# Altium footprint library WE-SL3.PcbLib: 2 footprints
Each footprint in its own frame and in the unit in brackets; x right, y up, seen from the top. Pads: shape width x height; smd on the part's side, far side on the other; paste and mask are expansions set on the pad; w line width, h text height; cw(c..) or ccw(c..) is an arc to the next point about the centre after c.
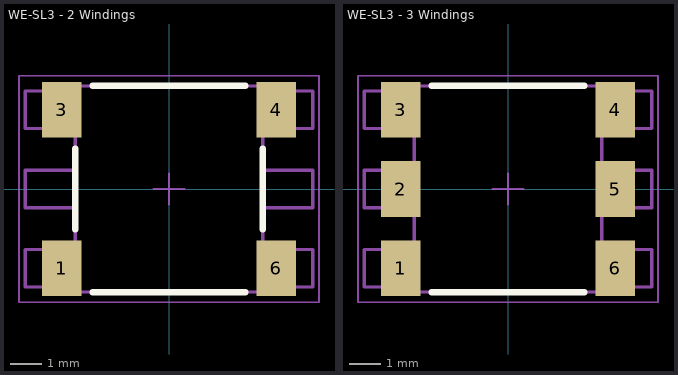
[diagram p0: the footprints below, top view; thin cyan lines are the x and y axes]

## WE-SL3 - 2 Windings [mm] "SMD Inductor, body 9.2x6.6mm, 4-leads"
height 2.5
pads (4):
  rect 1.27x1.78 smd: 1(-3.43,-2.54) 3(-3.43,2.54) 4(3.43,2.54) 6(3.43,-2.54)
Top Overlay:
  lines w0.2: -3,-1.3 -3,1.3 ; -2.45,-3.3 2.45,-3.3 ; -2.45,3.3 2.45,3.3 ; 3,-1.3 3,1.3
Top Designator:
  text ".Designator" at -7.498,-0.5 h1.5
Top Component Outline:
  lines w0.1: -3,-3.14 -4.6,-3.14 -4.6,-1.94 -3,-1.94 ; -3,-0.6 -4.6,-0.6 -4.6,0.6 -3,0.6 ; -3,1.94 -4.6,1.94 -4.6,3.14 -3,3.14 ; 3,-3.14 4.6,-3.14 4.6,-1.94 3,-1.94 ; 3,-0.6 4.6,-0.6 4.6,0.6 3,0.6 ; 3,1.94 4.6,1.94 4.6,3.14 3,3.14 ; -3,-3.3 -3,3.3 3,3.3 3,-3.3 -3,-3.3
Top 3D Body:
  lines w0.1: -3,-3.14 -4.6,-3.14 -4.6,-1.94 -3,-1.94 ; -3,-0.6 -4.6,-0.6 -4.6,0.6 -3,0.6 ; -3,1.94 -4.6,1.94 -4.6,3.14 -3,3.14 ; 3,-3.14 4.6,-3.14 4.6,-1.94 3,-1.94 ; 3,-0.6 4.6,-0.6 4.6,0.6 3,0.6 ; 3,1.94 4.6,1.94 4.6,3.14 3,3.14 ; -3,-3.3 -3,3.3 3,3.3 3,-3.3 -3,-3.3
Top Courtyard:
  lines w0.05: -0.5,0 0.5,0 ; 0,-0.5 0,0.5 ; -4.8,-3.63 -4.8,3.63 4.8,3.63 4.8,-3.63 -4.8,-3.63
3D body "744252xxx.stp": height 2.53, standoff 0.03, extent -4.6,-3.3 4.6,3.3

## WE-SL3 - 3 Windings [mm] "SMD Inductor, body 9.2x6.6mm, 6-leads"
height 2.5
pads (6):
  rect 1.27x1.78 smd: 1(-3.43,-2.54) 2(-3.43,0) 3(-3.43,2.54) 4(3.43,2.54) 5(3.43,0) 6(3.43,-2.54)
Top Overlay:
  lines w0.2: -2.45,-3.3 2.45,-3.3 ; -2.45,3.3 2.45,3.3
Top Designator:
  text ".Designator" at -7.498,-0.5 h1.5
Top Component Outline:
  lines w0.1: -3,-3.14 -4.6,-3.14 -4.6,-1.94 -3,-1.94 ; -3,-0.6 -4.6,-0.6 -4.6,0.6 -3,0.6 ; -3,1.94 -4.6,1.94 -4.6,3.14 -3,3.14 ; 3,-3.14 4.6,-3.14 4.6,-1.94 3,-1.94 ; 3,-0.6 4.6,-0.6 4.6,0.6 3,0.6 ; 3,1.94 4.6,1.94 4.6,3.14 3,3.14 ; -3,-3.3 3,-3.3 3,3.3 -3,3.3 -3,-3.3
Top 3D Body:
  lines w0.1: -3,-3.14 -4.6,-3.14 -4.6,-1.94 -3,-1.94 ; -3,-0.6 -4.6,-0.6 -4.6,0.6 -3,0.6 ; -3,1.94 -4.6,1.94 -4.6,3.14 -3,3.14 ; 3,-3.14 4.6,-3.14 4.6,-1.94 3,-1.94 ; 3,-0.6 4.6,-0.6 4.6,0.6 3,0.6 ; 3,1.94 4.6,1.94 4.6,3.14 3,3.14 ; -3,-3.3 -3,3.3 3,3.3 3,-3.3 -3,-3.3
Top Courtyard:
  lines w0.05: -0.5,0 0.5,0 ; 0,-0.5 0,0.5 ; -4.8,-3.63 -4.8,3.63 4.8,3.63 4.8,-3.63 -4.8,-3.63
3D body "744253xxx.stp": height 2.53, standoff 0.03, extent -4.6,-3.3 4.6,3.3